# EAGLE library part K-HEADER-MALE-1X6- (library elpp-tht-v1.4)
PIN HEADER
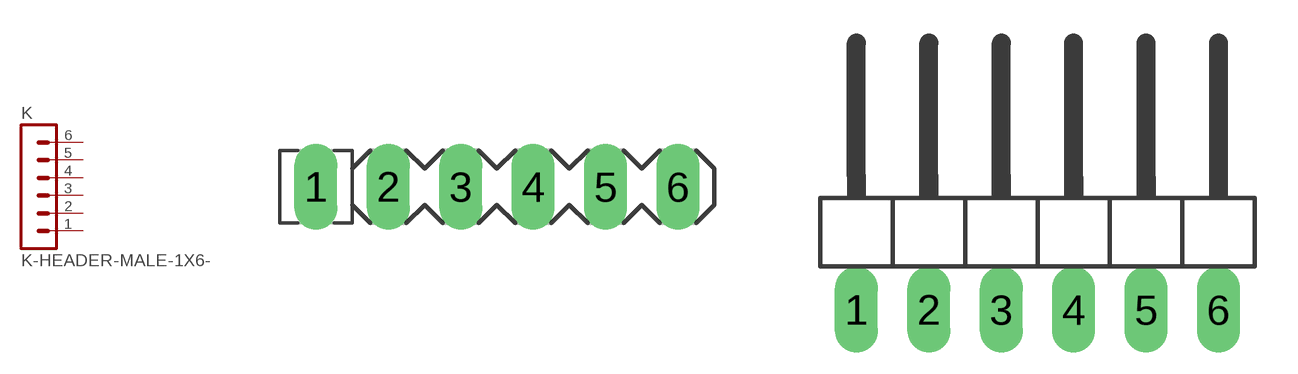
[diagram p7: symbol with the pads of ELPP-SIL-M-6-WAY; footprints ELPP-SIL-M-6-WAY, ELPP-SIL-M-6-WAY-90DEG]

Designator prefix K

## K-HEADER-MALE-1X6-V (FARNELL: 1098454; RS: 6812058)  [ELPP-SIL-M-6-WAY]
1  1  pas
2  2  pas
3  3  pas
4  4  pas
5  5  pas
6  6  pas

## K-HEADER-MALE-1X6-H (FARNELL: 1098476; RS: 6812060)  [ELPP-SIL-M-6-WAY-90DEG]
Pads as for ELPP-SIL-M-6-WAY

## Footprint ELPP-SIL-M-6-WAY (pad centres in mm)
PIN HEADER, 6-way
drill 1 long: 1 -5.08,0; 2 -2.54,0; 3 0,0; 4 2.54,0; 5 5.08,0; 6 7.62,0

## Footprint ELPP-SIL-M-6-WAY-90DEG (pad centres in mm)
PIN HEADER, 1 row, 90 degrees
drill 1 long: 1 -6.35,0; 2 -3.81,0; 3 -1.27,0; 4 1.27,0; 5 3.81,0; 6 6.35,0